# EAGLE library part VP4* (library inductor-cooper)
TRANSFORMER/INDUCTOR
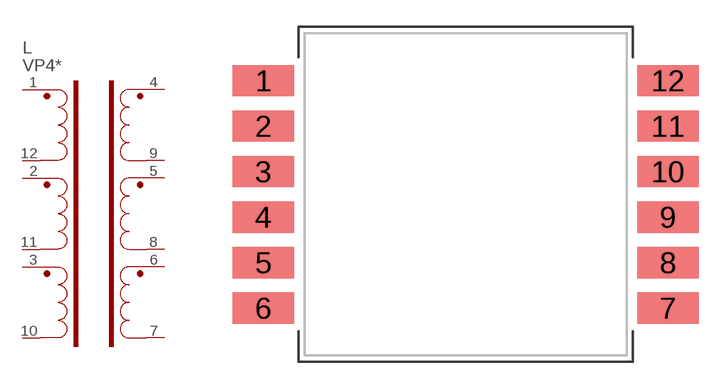
[diagram p3: symbol with the pads of VP4; footprint VP4]

Designator prefix L; gates P1=PNV P2=P P3=P S1=S S2=S S3=S

## VP4 (P1I: o)  [VP4]
1  P1:PH  pas
2  P2:PH  pas
3  P3:PH  pas
4  S1:SH  pas
5  S2:SH  pas
6  S3:SH  pas
7  S3:SC  pas
8  S2:SC  pas
9  S1:SC  pas
10  P3:PC  pas
11  P2:PC  pas
12  P1:PC  pas

## Footprint VP4 (pad centres in mm)
INDUCTOR/TRANSFORMER VP4 and VPH4
smd 3.43 x 1.75: 1 -11.285,6.35; 2 -11.285,3.81; 3 -11.285,1.27; 4 -11.285,-1.27; 5 -11.285,-3.81; 6 -11.285,-6.35; 7 11.285,-6.35; 8 11.285,-3.81; 9 11.285,-1.27; 10 11.285,1.27; 11 11.285,3.81; 12 11.285,6.35